# EAGLE library part 2CH_ANALOG_SELECTOR (library lib)
Analog Selector Analog Switch ICs SWITCH DPDT ENH 3V 65OHM 10MSOP IND
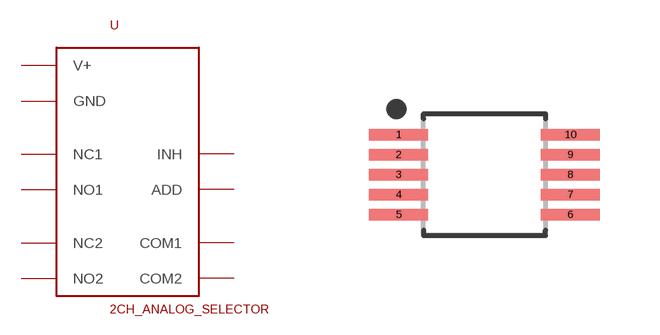
[diagram p6: symbol with the pads of SOP50P490X110-10N; footprint SOP50P490X110-10N]

Designator prefix U

## 2CH_ANALOG_SELECTORMSOP-10 (LINK: https://www.mouser.se/ProductDetail/Renesas-Intersil/ISL43410IUZ?qs=9fLuogzTs8IhenJCAVgckg%3D%3D; MOUSERNR: 968-ISL43410IUZ; MPN: ISL43410IUZ; SUPPLIER: Mouser)  [SOP50P490X110-10N]
1  NO1
2  COM1
3  NC1
4  INH
5  GND
6  ADD
7  NC2
8  COM2
9  NO2
10  V+

## Footprint SOP50P490X110-10N (pad centres in mm)
10-SOP, 0.50 mm pitch, 4.90 mm span, 3.00 X 3.00 X 1.10 mm body 10-pin SOP package with 0.50 mm pitch, 4.90 mm span with body size 3.00 X 3.00 X 1.10 mm
smd 1.471 x 0.283: 1 -2.15,1; 2 -2.15,0.5; 3 -2.15,0; 4 -2.15,-0.5; 5 -2.15,-1; 6 2.15,-1; 7 2.15,-0.5; 8 2.15,0; 9 2.15,0.5; 10 2.15,1